# Altium schematic symbol library NIOBE4_MINI_FBGA98.SchLib: 1 symbol
Pins are listed as number, name and electrical type; pins without a type are passive.

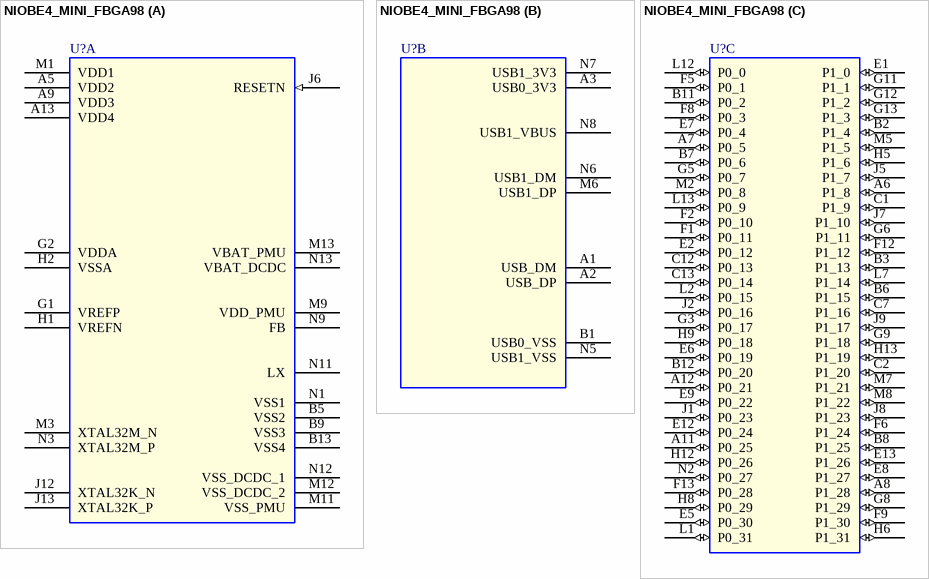
[diagram p0: symbol NIOBE4_MINI_FBGA98]

## NIOBE4_MINI_FBGA98
designator U?
IC MCU ARM FLASH 640KB SRAM 320KB 1.8-3.6V VFBGA 98
part A pins: A5 VDD2 (power), A9 VDD3 (power), A13 VDD4 (power), B5 VSS2 (power), B9 VSS3 (power), B13 VSS4 (power), G1 VREFP (power), G2 VDDA (power), H1 VREFN (power), H2 VSSA (power), J6 RESETN (in), J12 XTAL32K_N, J13 XTAL32K_P, M1 VDD1 (power), M3 XTAL32M_N, M9 VDD_PMU (power), M11 VSS_PMU (power), M12 VSS_DCDC_2 (power), M13 VBAT_PMU (power), N1 VSS1 (power), N3 XTAL32M_P, N9 FB, N11 LX, N12 VSS_DCDC_1 (power), N13 VBAT_DCDC (power)
part B pins: A1 USB_DM, A2 USB_DP, A3 USB0_3V3 (power), B1 USB0_VSS (power), M6 USB1_DP, N5 USB1_VSS (power), N6 USB1_DM, N7 USB1_3V3 (power), N8 USB1_VBUS
part C pins: A6 P1_8 (io), A7 P0_5 (io), A8 P1_28 (io), A11 P0_25 (io), A12 P0_21 (io), B2 P1_4 (io), B3 P1_13 (io), B6 P1_15 (io), B7 P0_6 (io), B8 P1_25 (io), B11 P0_2 (io), B12 P0_20 (io), C1 P1_9 (io), C2 P1_20 (io), C7 P1_16 (io), C12 P0_13 (io), C13 P0_14 (io), E1 P1_0 (io), E2 P0_12 (io), E5 P0_30 (io), E6 P0_19 (io), E7 P0_4 (io), E8 P1_27 (io), E9 P0_22 (io), E12 P0_24 (io), E13 P1_26 (io), F1 P0_11 (io), F2 P0_10 (io), F5 P0_1 (io), F6 P1_24 (io), F8 P0_3 (io), F9 P1_30 (io), F12 P1_12 (io), F13 P0_28 (io), G3 P0_17 (io), G5 P0_7 (io), G6 P1_11 (io), G8 P1_29 (io), G9 P1_18 (io), G11 P1_1 (io), G12 P1_2 (io), G13 P1_3 (io), H5 P1_6 (io), H6 P1_31 (io), H8 P0_29 (io), H9 P0_18 (io), H12 P0_26 (io), H13 P1_19 (io), J1 P0_23 (io), J2 P0_16 (io), J5 P1_7 (io), J7 P1_10 (io), J8 P1_23 (io), J9 P1_17 (io), L1 P0_31 (io), L2 P0_15 (io), L7 P1_14 (io), L12 P0_0 (io), L13 P0_9 (io), M2 P0_8 (io), M5 P1_5 (io), M7 P1_21 (io), M8 P1_22 (io), N2 P0_27 (io)